# Altium schematic symbol library Schlib1.SchLib: 5 symbols
Pins are listed as number, name and electrical type; pins without a type are passive.

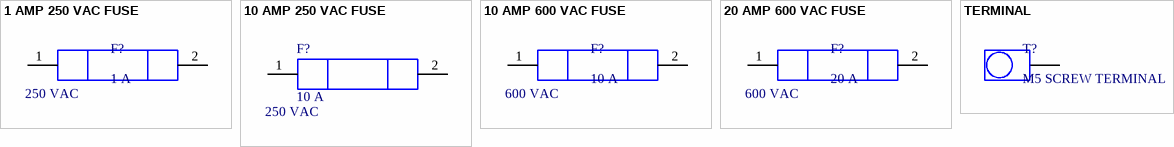
[diagram p0: symbols 1 AMP 250 VAC FUSE to TERMINAL]

## 1 AMP 250 VAC FUSE
designator F?, comment 1 A  VOLTAGE_RATING: 250 VAC
1 AMP 250 VAC FUSE; PART NUMBER: GBB-1-R; MANUFACTURE: COOPER BUSSMAN; CURRENT_RATING: 1 A; ClassName: 120_VOLT
footprint 1/4 FUSE
pins: 1, 2

## 10 AMP 250 VAC FUSE
designator F?, comment 10 A  VOLTAGE_RATING: 250 VAC
10 AMP 250 VAC FUSE; MANUFACTURE: COOPER BUSSMAN; PART NUMBER: GBB-10-R; ClassName: 120_VOLT; CURRENT_RATING: 10 A
footprint 1/4 FUSE
pins: 1, 2

## 10 AMP 600 VAC FUSE
designator F?, comment 10 A  VOLTAGE_RATING: 600 VAC
10 AMP 600 VAC FUSE; MANUFACTURE: COOPER BUSSMAN; PART NUMBER: KTK-R-10; ClassName: 240_VOLT; CURRENT_RATING: 10 A
footprint 13/32 FUSE
pins: 1, 2

## 20 AMP 600 VAC FUSE
designator F?, comment 20 A  VOLTAGE_RATING: 600 VAC
20 AMP 600 VAC FUSE; MANUFACTURE: COOPER BUSSMAN; PART NUMBER: KTK-R-20; ClassName: 240_VOLT; CURRENT_RATING: 20 A
footprint 13/32 FUSE
pins: 1, 2

## TERMINAL
designator T?, comment M5 SCREW TERMINAL
footprint M5 TERMINAL
pins: 1